# Altium schematic symbol library 66210113722.SchLib: 1 symbol
Pins are listed as number, name and electrical type; pins without a type are passive.

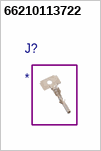
[diagram p0: symbol 66210113722]

## 66210113722
designator J?